# Altium integrated library Battery.IntLib: 2 symbols
Pins are listed as number, name and electrical type; pins without a type are passive.

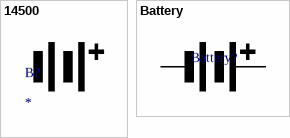
[diagram p0: symbols 14500 to Battery]

## 14500
designator B?
footprint 14500

## Battery
designator Battery?  (value not drawn)
footprint CR2032-1
footprint CR1220
footprint CR1220 - 1
footprint MS621
pins: 1 -, 2 +